# EAGLE library part TX24-60R-6ST-H1E (library con-jae)
CONN RCPT 1.27MM 60POS GOLD PCB
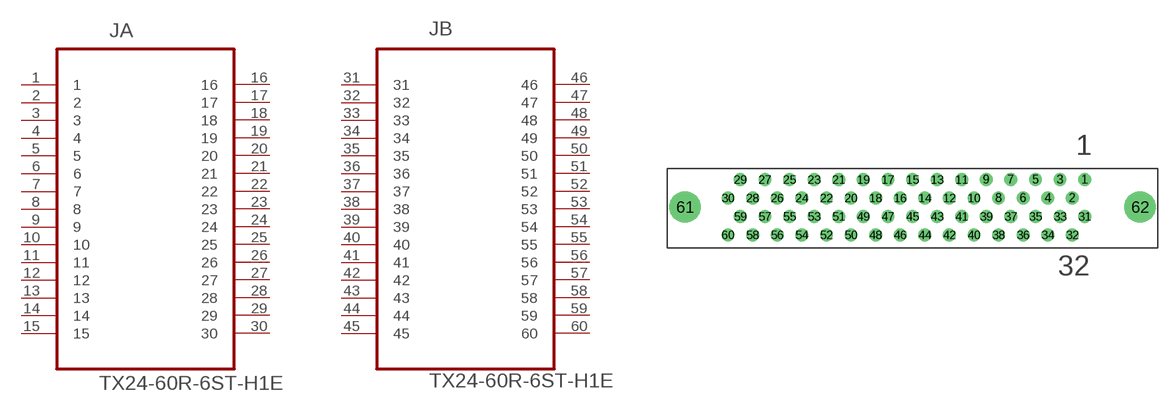
[diagram p11: symbol with the pads of JAE_TX24-60R-6ST-H1E; footprint JAE_TX24-60R-6ST-H1E]

Designator prefix J; gates A=TX24-60R-6ST-H1E_A B=TX24-60R-6ST-H1E_B

## TX24-60R-6ST-H1E (DATASHEELINK: http://www.jae.com/z-en/pdf_download_exec.cfm?param=SJ038253.pdf; DESCRIPTION: CONN-60POS; MPN: TX24-60R-6ST-H1E; OC_FARNELL: 1519623; OC_NEWARK: 74M4881; ROHS: Yes; SUPPLIER: JAE Electronics)  [JAE_TX24-60R-6ST-H1E]
1  A:1  pas
2  A:2  pas
3  A:3  pas
4  A:4  pas
5  A:5  pas
6  A:6  pas
7  A:7  pas
8  A:8  pas
9  A:9  pas
10  A:10  pas
11  A:11  pas
12  A:12  pas
13  A:13  pas
14  A:14  pas
15  A:15  pas
16  A:16  pas
17  A:17  pas
18  A:18  pas
19  A:19  pas
20  A:20  pas
21  A:21  pas
22  A:22  pas
23  A:23  pas
24  A:24  pas
25  A:25  pas
26  A:26  pas
27  A:27  pas
28  A:28  pas
29  A:29  pas
30  A:30  pas
31  B:31  pas
32  B:32  pas
33  B:33  pas
34  B:34  pas
35  B:35  pas
36  B:36  pas
37  B:37  pas
38  B:38  pas
39  B:39  pas
40  B:40  pas
41  B:41  pas
42  B:42  pas
43  B:43  pas
44  B:44  pas
45  B:45  pas
46  B:46  pas
47  B:47  pas
48  B:48  pas
49  B:49  pas
50  B:50  pas
51  B:51  pas
52  B:52  pas
53  B:53  pas
54  B:54  pas
55  B:55  pas
56  B:56  pas
57  B:57  pas
58  B:58  pas
59  B:59  pas
60  B:60  pas

## Footprint JAE_TX24-60R-6ST-H1E (pad centres in mm)
drill 0.813: 1 17.78,-1.143; 2 16.51,-3.048; 3 15.24,-1.143; 4 13.97,-3.048; 5 12.7,-1.143; 6 11.43,-3.048; 7 10.16,-1.143; 8 8.89,-3.048; 9 7.62,-1.143; 10 6.35,-3.048; 11 5.08,-1.143; 12 3.81,-3.048; 13 2.54,-1.143; 14 1.27,-3.048; 15 0,-1.143; 16 -1.27,-3.048; 17 -2.54,-1.143; 18 -3.81,-3.048; 19 -5.08,-1.143; 20 -6.35,-3.048; 21 -7.62,-1.143; 22 -8.89,-3.048; 23 -10.16,-1.143; 24 -11.43,-3.048; 25 -12.7,-1.143; 26 -13.97,-3.048; 27 -15.24,-1.143; 28 -16.51,-3.048; 29 -17.78,-1.143; 30 -19.05,-3.048; 31 17.78,-4.953; 32 16.51,-6.858; 33 15.24,-4.953; 34 13.97,-6.858; 35 12.7,-4.953; 36 11.43,-6.858; 37 10.16,-4.953; 38 8.89,-6.858; 39 7.62,-4.953; 40 6.35,-6.858; 41 5.08,-4.953; 42 3.81,-6.858; 43 2.54,-4.953; 44 1.27,-6.858; 45 0,-4.953; 46 -1.27,-6.858; 47 -2.54,-4.953; 48 -3.81,-6.858; 49 -5.08,-4.953; 50 -6.35,-6.858; 51 -7.62,-4.953; 52 -8.89,-6.858; 53 -10.16,-4.953; 54 -11.43,-6.858; 55 -12.7,-4.953; 56 -13.97,-6.858; 57 -15.24,-4.953; 58 -16.51,-6.858; 59 -17.78,-4.953; 60 -19.05,-6.858
drill 2.21: 61 -23.495,-3.988; 62 23.495,-3.988